# Altium footprint library PCB1.PcbLib: 31 footprints (part 1 of 2)
Each footprint in its own frame and in the unit in brackets; x right, y up, seen from the top. Pads: shape width x height; smd on the part's side, far side on the other; paste and mask are expansions set on the pad; w line width, h text height; cw(c..) or ccw(c..) is an arc to the next point about the centre after c.
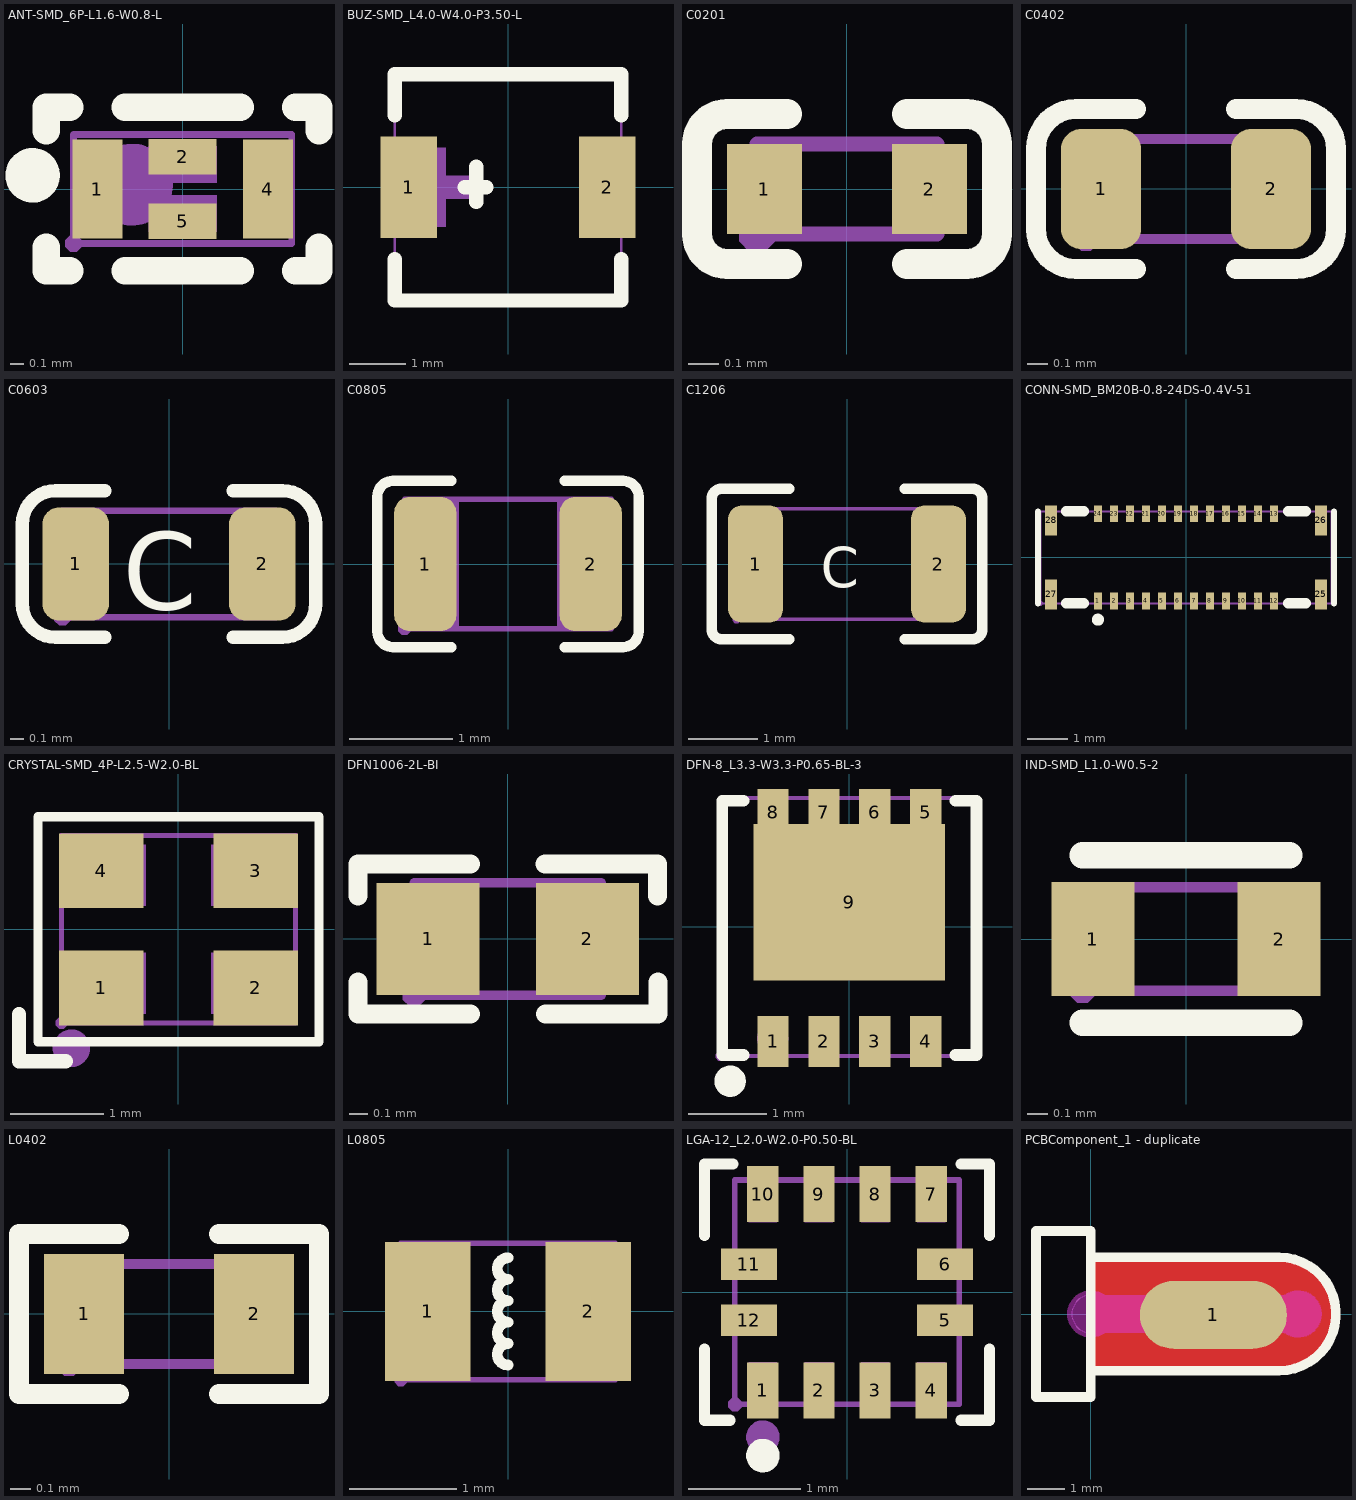
[diagram p0: the footprints below, top view; thin cyan lines are the x and y axes]

## ANT-SMD_6P-L1.6-W0.8-L [mm]
pads (4):
  rect 0.365x0.728 smd: 1(-0.625,0) 4(0.625,0)
  rect 0.5x0.26 smd paste+0 mask+0.05: 2(0,0.235) 5(0,-0.235)
Top Overlay:
  circle w0.2: c-1.1,0.1 r0.1
  lines w0.2: -1,-0.428 -1,-0.6 -0.828,-0.6 ; -1,0.428 -1,0.6 -0.828,0.6 ; -0.422,-0.6 0.422,-0.6 ; -0.422,0.6 0.422,0.6 ; 0.828,-0.6 1,-0.6 1,-0.428 ; 0.828,0.6 1,0.6 1,0.428
Mechanical 6:
  circle w0.3: c-0.371,0.031 r0.15
Mechanical 15:
  region: -0.518,0.315 -0.518,-0.315 -0.733,-0.315 -0.733,0.315
  region: 0.733,0.315 0.733,-0.315 0.518,-0.315 0.518,0.315
  region: -0.25,0.047 -0.25,0.315 0.25,0.315 0.25,0.047
  region: -0.25,-0.315 -0.25,-0.048 0.25,-0.048 0.25,-0.315
  region: -0.86,-0.4 -0.86,-0.425 -0.825,-0.46 -0.775,-0.46 -0.74,-0.425 -0.74,-0.4 -0.74,-0.375 -0.775,-0.34 -0.825,-0.34 -0.86,-0.375 -0.86,-0.4
  lines w0.051: -0.8,-0.4 -0.8,0.4 0.8,0.4 0.8,-0.4 -0.8,-0.4

## BUZ-SMD_L4.0-W4.0-P3.50-L [mm]
pads (2):
  rect 1x1.8 smd: 1(-1.75,0) 2(1.75,0)
Top Overlay:
  lines w0.254: -2,-1.27 -2,-2 2,-2 2,-1.27 ; -2,1.27 -2,2 2,2 2,1.27 ; -0.762,0 -0.381,0 ; -0.56,-0.26 -0.56,0.36
Mechanical 6:
  region: -2.1,0.2 -1.5,0.2 -1.5,0.7 -1.1,0.7 -1.1,0.2 -0.5,0.2 -0.5,-0.2 -1.1,-0.2 -1.1,-0.7 -1.5,-0.7 -1.5,-0.2 -2.1,-0.2
Mechanical 15:
  region: -1.94,-2 -1.94,-1.975 -1.975,-1.94 -2.025,-1.94 -2.06,-1.975 -2.06,-2 -2.06,-2.025 -2.025,-2.06 -1.975,-2.06 -1.94,-2.025 -1.94,-2
  region: -2,0.7 -1.5,0.7 -1.5,-0.7 -2,-0.7
  region: 1.5,0.7 2,0.7 2,-0.7 1.5,-0.7
  lines w0.051: -2,-2 2,-2 2,2 -2,2 -2,-2

## C0201 [mm]
pads (2):
  rect 0.25x0.3 smd: 1(-0.275,0) 2(0.275,0)
Top Overlay:
  lines w0.1: -0.2,-0.25 -0.4,-0.25 cw(c-0.4,-0.15) -0.5,-0.15 -0.5,0.15 cw(c-0.4,0.15) -0.4,0.25 -0.2,0.25 ; 0.2,-0.25 0.4,-0.25 ccw(c0.4,-0.15) 0.5,-0.15 0.5,0.15 ccw(c0.4,0.15) 0.4,0.25 0.2,0.25
Mechanical 15:
  region: -0.36,-0.15 -0.36,-0.175 -0.325,-0.21 -0.275,-0.21 -0.24,-0.175 -0.24,-0.15 -0.24,-0.125 -0.275,-0.09 -0.325,-0.09 -0.36,-0.125 -0.36,-0.15
  region: -0.3,-0.15 -0.3,0.15 -0.15,0.15 -0.15,-0.15
  region: 0.3,-0.15 0.3,0.15 0.15,0.15 0.15,-0.15
  lines w0.051: -0.3,-0.15 -0.3,0.15 0.3,0.15 0.3,-0.15 -0.3,-0.15

## C0402 [mm]
pads (2):
  rrect50% 0.4x0.6 smd: 1(-0.425,0) 2(0.425,0)
Top Overlay:
  lines w0.1: -0.25,-0.4 -0.55,-0.4 cw(c-0.55,-0.2) -0.75,-0.2 -0.75,0.2 cw(c-0.55,0.2) -0.55,0.4 -0.25,0.4 ; 0.25,-0.4 0.55,-0.4 ccw(c0.55,-0.2) 0.75,-0.2 0.75,0.2 ccw(c0.55,0.2) 0.55,0.4 0.25,0.4
Mechanical 15:
  region: -0.5,-0.19 -0.524,-0.191 -0.558,-0.226 -0.558,-0.274 -0.524,-0.309 -0.5,-0.31 -0.476,-0.309 -0.442,-0.274 -0.442,-0.226 -0.476,-0.191 -0.5,-0.19
  region: 0.5,-0.25 0.5,0.25 0.25,0.25 0.25,-0.25
  region: -0.5,-0.25 -0.5,0.25 -0.25,0.25 -0.25,-0.25
  lines w0.051: -0.5,-0.25 0.5,-0.25 0.5,0.25 -0.5,0.25 -0.5,-0.25

## C0603 [mm]
pads (2):
  rrect50% 0.5x0.85 smd: 1(-0.7,0) 2(0.7,0)
Top Overlay:
  lines w0.1: -0.48,-0.55 -0.85,-0.55 cw(c-0.85,-0.3) -1.1,-0.3 -1.1,0.3 cw(c-0.85,0.3) -0.85,0.55 -0.48,0.55 ; 0.48,-0.55 0.85,-0.55 ccw(c0.85,-0.3) 1.1,-0.3 1.1,0.3 ccw(c0.85,0.3) 0.85,0.55 0.48,0.55
  text "C" at -0.346,-0.533 h1
Mechanical 15:
  region: -0.8,-0.4 -0.8,0.4 -0.5,0.4 -0.5,-0.4
  region: 0.8,-0.4 0.8,0.4 0.5,0.4 0.5,-0.4
  region: -0.86,-0.4 -0.86,-0.425 -0.825,-0.46 -0.775,-0.46 -0.74,-0.425 -0.74,-0.4 -0.74,-0.375 -0.775,-0.34 -0.825,-0.34 -0.86,-0.375 -0.86,-0.4
  lines w0.051: -0.8,-0.4 -0.8,0.4 0.8,0.4 0.8,-0.4 -0.8,-0.4

## C0805 [mm]
pads (2):
  rrect50% 0.6x1.3 smd paste-100 mask+0.051: 1(-0.8,0) 2(0.8,0)
Top Overlay:
  lines w0.1: -0.548,-0.804 -1.111,-0.804 cw(c-1.111,-0.651) -1.264,-0.651 -1.264,0.651 cw(c-1.111,0.651) -1.111,0.804 -0.548,0.804 ; 0.548,-0.804 1.111,-0.804 ccw(c1.111,-0.651) 1.264,-0.651 1.264,0.651 ccw(c1.111,0.651) 1.111,0.804 0.548,0.804
Top Paste:
  region: 1.104,0.595 1.104,-0.597 0.99,-0.71 0.475,-0.71 0.425,-0.66 0.42,-0.25 0.87,-0.25 0.87,0.2 0.43,0.2 0.425,0.62 0.475,0.67 1.028,0.67
  region: -1.104,-0.595 -1.104,0.597 -0.99,0.71 -0.475,0.71 -0.425,0.66 -0.42,0.25 -0.87,0.25 -0.87,-0.2 -0.43,-0.2 -0.425,-0.62 -0.475,-0.67 -1.028,-0.67
Mechanical 15:
  region: -1.06,-0.625 -1.06,-0.65 -1.025,-0.685 -0.975,-0.685 -0.94,-0.65 -0.94,-0.625 -0.94,-0.6 -0.975,-0.565 -1.025,-0.565 -1.06,-0.6 -1.06,-0.625
  region: 1,0.625 1,-0.625 0.5,-0.625 0.5,0.625
  region: -1,-0.625 -1,0.625 -0.5,0.625 -0.5,-0.625
  lines w0.051: -0.503,-0.622 -0.5,-0.619 -0.5,0.625 ; 0.5,0.625 0.5,-0.619 0.503,-0.622 ; -1,-0.625 1,-0.625 1,0.625 -1,0.625 -1,-0.625

## C1206 [mm]
pads (2):
  rrect50% 0.8x1.7 smd paste-100 mask+0.051: 1(-1.325,0) 2(1.325,0)
Top Overlay:
  lines w0.152: -0.837,-1.093 -1.811,-1.093 cw(c-1.811,-0.94) -1.964,-0.94 -1.964,0.94 cw(c-1.811,0.94) -1.811,1.093 -0.837,1.093 ; 0.837,-1.093 1.811,-1.093 ccw(c1.811,-0.94) 1.963,-0.94 1.963,0.94 ccw(c1.811,0.94) 1.811,1.093 0.837,1.093
  text "C" at -0.381,-0.533 h1
Top Paste:
  region: 0.85,-0.764 0.85,-0.394 0.95,-0.294 1.255,-0.294 1.355,-0.194 1.355,0.194 1.255,0.294 0.95,0.294 0.85,0.394 0.85,0.764 0.95,0.864 1.574,0.864 1.725,0.713 1.725,-0.739 1.6,-0.864 0.95,-0.864
  region: -0.85,0.764 -0.85,0.394 -0.95,0.294 -1.255,0.294 -1.355,0.194 -1.355,-0.194 -1.255,-0.294 -0.95,-0.294 -0.85,-0.394 -0.85,-0.764 -0.95,-0.864 -1.575,-0.864 -1.725,-0.713 -1.725,0.739 -1.6,0.864 -0.95,0.864
Mechanical 15:
  region: -1.66,-0.8 -1.66,-0.825 -1.625,-0.86 -1.575,-0.86 -1.54,-0.825 -1.54,-0.8 -1.54,-0.775 -1.575,-0.74 -1.625,-0.74 -1.66,-0.775 -1.66,-0.8
  region: 1.6,-0.8 1.6,0.8 1.1,0.8 1.1,-0.8
  region: -1.6,-0.8 -1.6,0.8 -1.1,0.8 -1.1,-0.8
  lines w0.051: -1,-0.8 -1,-0.8 -1,0.8 ; 1,-0.8 1,0.8 1,0.8 ; -1.6,-0.8 1.6,-0.8 1.6,0.8 -1.6,0.8 -1.6,-0.8

## CONN-SMD_BM20B-0.8-24DS-0.4V-51 [mm]
pads (28):
  rect 0.2x0.42 smd: 1(-2.2,-1.09) 2(-1.8,-1.09) 3(-1.4,-1.09) 4(-1,-1.09) 5(-0.6,-1.09) 6(-0.2,-1.09) 7(0.2,-1.09) 8(0.6,-1.09) 9(1,-1.09) 10(1.4,-1.09) 11(1.8,-1.09) 12(2.2,-1.09) 13(2.2,1.09) 14(1.8,1.09) 15(1.4,1.09) 16(1,1.09) 17(0.6,1.09) 18(0.2,1.09) 19(-0.2,1.09) 20(-0.6,1.09) 21(-1,1.09) 22(-1.4,1.09) 23(-1.8,1.09) 24(-2.2,1.09)
  rect 0.3x0.75 smd: 25(3.375,-0.925) 26(3.375,0.925) 27(-3.375,-0.925) 28(-3.375,0.925)
Top Overlay:
  circle w0.15: c-2.2,-1.56 r0.076
  lines w0.15: -3.7,-1.15 -3.7,1.15 ; 3.7,-1.15 3.7,1.15
  lines w0.254: -2.994,-1.15 -2.546,-1.15 ; -2.994,1.15 -2.546,1.15 ; 2.546,-1.15 2.994,-1.15 ; 2.546,1.15 2.994,1.15
Mechanical 15:
  drawing of 33 lines, arcs and shapes, not listed

## CRYSTAL-SMD_4P-L2.5-W2.0-BL [mm]
pads (4):
  rect 0.9x0.8 smd: 1(-0.825,-0.625) 2(0.825,-0.625) 3(0.825,0.625) 4(-0.825,0.625)
Top Overlay:
  lines w0.1: -1.5,-1.2 1.5,-1.2 1.5,1.2 -1.5,1.2 -1.5,-1.2
  lines w0.152: -1.703,-0.908 -1.703,-1.408 -1.203,-1.408
Mechanical 6:
  circle w0.2: c-1.143,-1.27 r0.1
Mechanical 15:
  region: 0.35,-0.25 1.15,-0.25 1.15,-0.9 0.35,-0.9
  region: -0.35,-0.9 -1.15,-0.9 -1.15,-0.25 -0.35,-0.25
  region: -0.35,0.25 -1.15,0.25 -1.15,0.9 -0.35,0.9
  region: 1.15,0.25 0.35,0.25 0.35,0.9 1.15,0.9
  region: -1.25,-1.06 -1.225,-1.06 -1.19,-1.025 -1.19,-0.975 -1.225,-0.94 -1.25,-0.94 -1.275,-0.94 -1.31,-0.975 -1.31,-1.025 -1.275,-1.06 -1.25,-1.06
  lines w0.051: -1.25,-1 -1.25,1 1.25,1 1.25,-1 -1.25,-1

## DFN1006-2L-BI [mm]
pads (2):
  rect 0.55x0.6 smd: 1(-0.425,0) 2(0.425,0)
Top Overlay:
  lines w0.102: -0.8,-0.23 -0.8,-0.4 -0.2,-0.4 ; -0.8,0.229 -0.8,0.4 -0.2,0.4 ; 0.2,0.4 0.8,0.4 0.8,0.23 ; 0.203,-0.4 0.803,-0.4 0.803,-0.23
Mechanical 15:
  region: -0.56,-0.3 -0.56,-0.325 -0.525,-0.36 -0.475,-0.36 -0.44,-0.325 -0.44,-0.3 -0.44,-0.275 -0.475,-0.24 -0.525,-0.24 -0.56,-0.275 -0.56,-0.3
  region: 0.225,0.254 0.475,0.254 0.475,-0.254 0.225,-0.254
  region: -0.475,0.254 -0.225,0.254 -0.225,-0.254 -0.475,-0.254
  lines w0.051: -0.5,-0.3 -0.5,0.3 0.5,0.3 0.5,-0.3 -0.5,-0.3

## DFN-8_L3.3-W3.3-P0.65-BL-3 [mm]
pads (9):
  rect 0.4x0.65 smd paste-100 mask+0.05: 1(-0.975,-1.463) 2(-0.325,-1.463) 3(0.325,-1.463) 4(0.975,-1.463)
  rect 0.4x0.6 smd paste-100 mask+0.05: 5(0.975,1.463) 6(0.325,1.463) 7(-0.325,1.463) 8(-0.975,1.463)
  rect 2.45x2 smd paste-100 mask+0.05: 9(0,0.312)
Top Overlay:
  circle w0.2: c-1.524,-1.972 r0.1
  lines w0.152: -1.355,-1.638 -1.625,-1.638 -1.625,1.612 -1.355,1.612 ; 1.355,-1.638 1.625,-1.638 1.625,1.612 1.355,1.612
Top Paste:
  region: 1.175,1.762 1.175,1.312 1.225,1.312 1.225,-0.688 -1.225,-0.688 -1.225,1.312 -1.175,1.312 -1.175,1.762 -0.775,1.762 -0.775,1.312 -0.525,1.312 -0.525,1.762 -0.125,1.762 -0.125,1.312 0.125,1.312 0.125,1.762 0.525,1.762 0.525,1.312 0.775,1.312 0.775,1.762
  region: 0.775,-1.788 1.175,-1.788 1.175,-1.138 0.775,-1.138
  region: 0.125,-1.788 0.525,-1.788 0.525,-1.138 0.125,-1.138
  region: -0.525,-1.788 -0.125,-1.788 -0.125,-1.138 -0.525,-1.138
  region: -1.175,-1.788 -0.775,-1.788 -0.775,-1.138 -1.175,-1.138
Mechanical 6:
  circle w0.2: c-0.98,-1.427 r0.1
Mechanical 15:
  region: -1.65,-1.59 -1.675,-1.59 -1.71,-1.625 -1.71,-1.675 -1.675,-1.71 -1.65,-1.71 -1.625,-1.71 -1.59,-1.675 -1.59,-1.625 -1.625,-1.59 -1.65,-1.59
  region: -1.175,1.275 1.175,1.275 1.175,-0.625 -1.175,-0.625
  region: 1.125,1.2 0.825,1.2 0.825,1.65 1.125,1.65
  region: 0.475,1.2 0.175,1.2 0.175,1.65 0.475,1.65
  region: -0.175,1.2 -0.475,1.2 -0.475,1.65 -0.175,1.65
  region: -0.825,1.2 -1.125,1.2 -1.125,1.65 -0.825,1.65
  region: 0.825,-1.2 1.125,-1.2 1.125,-1.65 0.825,-1.65
  region: 0.175,-1.2 0.475,-1.2 0.475,-1.65 0.175,-1.65
  region: -0.475,-1.2 -0.175,-1.2 -0.175,-1.65 -0.475,-1.65
  region: -1.125,-1.2 -0.825,-1.2 -0.825,-1.65 -1.125,-1.65
  lines w0.051: -1.65,-1.65 1.65,-1.65 1.65,1.65 -1.65,1.65 -1.65,-1.65

## IND-SMD_L1.0-W0.5-2 [mm]
pads (2):
  rect 0.4x0.55 smd: 1(-0.45,0) 2(0.45,0)
Top Overlay:
  lines w0.127: -0.5,-0.405 0.5,-0.405 ; -0.5,0.405 0.5,0.405
Mechanical 15:
  region: -0.44,-0.25 -0.441,-0.225 -0.476,-0.191 -0.525,-0.191 -0.56,-0.225 -0.56,-0.25 -0.56,-0.274 -0.525,-0.309 -0.476,-0.309 -0.441,-0.275 -0.44,-0.25
  region: 0.5,0.25 0.5,-0.25 0.3,-0.25 0.3,0.25
  region: -0.3,0.25 -0.3,-0.25 -0.5,-0.25 -0.5,0.25
  lines w0.051: -0.5,-0.25 0.5,-0.25 0.5,0.25 -0.5,0.25 -0.5,-0.25

## L0402 [mm]
pads (2):
  rect 0.4x0.6 smd: 1(-0.425,0) 2(0.425,0)
Top Overlay:
  lines w0.1: -0.25,-0.4 -0.75,-0.4 -0.75,0.4 -0.25,0.4 ; 0.25,-0.4 0.75,-0.4 0.75,0.4 0.25,0.4
Mechanical 15:
  region: -0.5,-0.25 -0.5,0.25 -0.25,0.25 -0.25,-0.25
  region: 0.5,-0.25 0.5,0.25 0.25,0.25 0.25,-0.25
  region: -0.44,-0.25 -0.441,-0.226 -0.476,-0.192 -0.524,-0.192 -0.559,-0.226 -0.56,-0.25 -0.559,-0.274 -0.524,-0.308 -0.476,-0.308 -0.441,-0.274 -0.44,-0.25
  lines w0.051: -0.5,-0.25 -0.5,0.25 0.5,0.25 0.5,-0.25 -0.5,-0.25

## L0805 [mm]
pads (2):
  rect 0.8x1.3 smd paste-100 mask+0.051: 1(-0.75,0) 2(0.75,0)
Top Overlay:
  lines w0.1: 0,-0.5 cw(c0,-0.4) 0,-0.3 cw(c0,-0.2) 0,-0.1 cw(c0,0) 0,0.1 cw(c0,0.2) 0,0.3 cw(c0,0.4) 0,0.5
Top Paste:
  region: 1,0.642 0.418,0.642 0.347,0.571 0.347,0.306 0.382,0.271 0.695,0.271 0.75,0.216 0.75,-0.184 0.7,-0.234 0.426,-0.234 0.347,-0.313 0.347,-0.559 0.426,-0.638 1.07,-0.638 1.145,-0.563 1.145,0.575 1.074,0.646 1.004,0.646
  region: -1,-0.642 -0.418,-0.642 -0.347,-0.571 -0.347,-0.306 -0.382,-0.271 -0.695,-0.271 -0.75,-0.216 -0.75,0.184 -0.7,0.234 -0.426,0.234 -0.347,0.313 -0.347,0.559 -0.426,0.638 -1.07,0.638 -1.145,0.563 -1.145,-0.575 -1.074,-0.646 -1.004,-0.646
Mechanical 15:
  region: 1,-0.637 1,0.638 0.6,0.638 0.6,-0.637
  region: -1,-0.637 -1,0.638 -0.6,0.638 -0.6,-0.637
  region: -1,-0.697 -0.976,-0.697 -0.942,-0.662 -0.942,-0.613 -0.976,-0.578 -1,-0.578 -1.024,-0.578 -1.058,-0.613 -1.058,-0.662 -1.024,-0.697 -1,-0.697
  lines w0.051: -1,-0.637 -1,0.638 1,0.638 1,-0.637 -1,-0.637

## LGA-12_L2.0-W2.0-P0.50-BL [mm]
pads (12):
  rect 0.28x0.5 smd: 1(-0.75,-0.875) 2(-0.25,-0.875) 3(0.25,-0.875) 4(0.75,-0.875) 7(0.75,0.875) 8(0.25,0.875) 9(-0.25,0.875) 10(-0.75,0.875)
  rect 0.5x0.28 smd: 5(0.875,-0.25) 6(0.875,0.25) 11(-0.875,0.25) 12(-0.875,-0.25)
Top Overlay:
  circle w0.15: c-0.75,-1.457 r0.075
  lines w0.1: -1.27,-0.508 -1.27,-1.143 -1.044,-1.143 ; -1.27,0.508 -1.27,1.143 -1.016,1.143 ; 1.016,-1.143 1.27,-1.143 1.27,-0.508 ; 1.016,1.143 1.27,1.143 1.27,0.508
Mechanical 6:
  circle w0.15: c-0.75,-1.293 r0.075
Mechanical 15:
  region: -1.06,-1 -1.06,-1.025 -1.025,-1.06 -0.975,-1.06 -0.94,-1.025 -0.94,-1 -0.94,-0.975 -0.975,-0.94 -1.025,-0.94 -1.06,-0.975 -1.06,-1
  region: -0.625,-0.125 -0.625,-0.375 -0.9,-0.375 -0.9,-0.125
  region: -0.625,0.375 -0.625,0.125 -0.9,0.125 -0.9,0.375
  region: -0.625,0.625 -0.875,0.625 -0.875,0.9 -0.625,0.9
  region: -0.125,0.625 -0.375,0.625 -0.375,0.9 -0.125,0.9
  region: 0.375,0.625 0.125,0.625 0.125,0.9 0.375,0.9
  region: 0.875,0.625 0.625,0.625 0.625,0.9 0.875,0.9
  region: 0.625,0.125 0.625,0.375 0.9,0.375 0.9,0.125
  region: 0.625,-0.375 0.625,-0.125 0.9,-0.125 0.9,-0.375
  region: 0.625,-0.625 0.875,-0.625 0.875,-0.9 0.625,-0.9
  region: 0.125,-0.625 0.375,-0.625 0.375,-0.9 0.125,-0.9
  region: -0.375,-0.625 -0.125,-0.625 -0.125,-0.9 -0.375,-0.9
  region: -0.875,-0.625 -0.625,-0.625 -0.625,-0.9 -0.875,-0.9
  lines w0.051: -1,-1 1,-1 1,1 -1,1 -1,-1

## PCBComponent_1 - duplicate [mm]
pads (1):
  oval 3.9x1.8 smd: 1(3.25,-0.024)
Top Layer:
  region: 5,-1.524 5.148,-1.524 5.438,-1.466 5.711,-1.353 5.956,-1.189 6.165,-0.98 6.329,-0.735 6.442,-0.462 6.5,-0.172 6.5,-0.024 6.5,0.124 6.442,0.414 6.329,0.687 6.165,0.932 5.956,1.141 5.711,1.305 5.438,1.418 5.148,1.476 5,1.476 0,1.476 0,-1.524
Top Overlay:
  lines w0.254: -1.45,-2.2 0,-2.2 0,2.2 -1.45,2.2 -1.45,-2.2 ; 0,-1.5 0,1.5 5,1.5 cw(c5,0) 5,-1.5 0,-1.5
Keep-Out Layer:
  board cut-out: 5,0 5,-0.099 5.076,-0.283 5.217,-0.424 5.401,-0.5 5.599,-0.5 5.783,-0.424 5.924,-0.283 6,-0.1 6,0 6,0.099 5.924,0.283 5.783,0.424 5.6,0.5 5.401,0.5 5.217,0.424 5.076,0.283 5,0.099 5,0
  board cut-out: -0.5,0 -0.5,-0.099 -0.423,-0.283 -0.283,-0.423 -0.099,-0.499 0.099,-0.499 0.283,-0.423 0.423,-0.283 0.5,-0.099 0.5,0 0.5,0.099 0.423,0.283 0.283,0.423 0.099,0.499 -0.099,0.499 -0.283,0.423 -0.423,0.283 -0.5,0.099 -0.5,0
  board cut-out: 0,-0.5 5.5,-0.5 5.5,0.5 0,0.5
  lines w1: 0,0 5.5,0 0,0
Mechanical 1:
  circle w0.025: c5.5,0 r0.5
  circle w0.025: c0,0 r0.5
  lines w0.025: 0,-0.5 5.5,-0.5 5.5,0.5 0,0.5 0,-0.5
Multi-Layer:
  region: 0,-0.5 5.5,-0.5 5.5,0.5 0,0.5
Multi-Layer keep-out:
  circle w0.254: c5.5,0 r0.5
  circle w0.254: c0,0 r0.5